# Altium schematic symbol library Quartzes.SchLib: 2 symbols
Pins are listed as number, name and electrical type; pins without a type are passive.

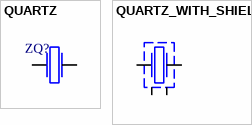
[diagram p0: symbols QUARTZ to QUARTZ_WITH_SHIELD]

## QUARTZ
designator ZQ?
pins: 1, 2

## QUARTZ_WITH_SHIELD
designator ?
pins: 1, 2 (power) hidden to GND "GND", 2 (power) hidden to GND "GND", 2 G, 3, 4 (power) hidden to GND "GND", 4 (power) hidden to GND "GND", 4 G